# EAGLE library part ADXL375 (library KwanSystems)
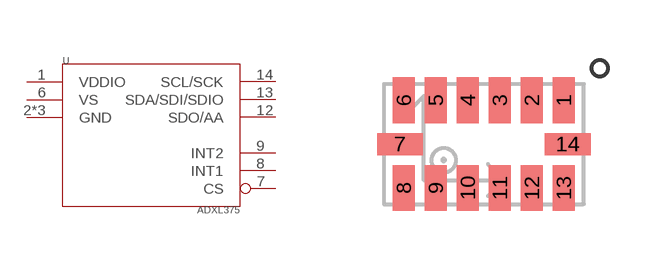
[diagram p32: symbol with the pads of ADXL375; footprint ADXL375]

Designator prefix -

## ADXL375  [ADXL375]
1  VDDIO  pwr
2  GND  pwr
4  GND  pwr
5  GND  pwr
6  VS  pwr
7  CS  in
8  INT1  out
9  INT2  out
12  SDO/AA
13  SDA/SDI/SDIO
14  SCL/SCK  in

## Footprint ADXL375 (pad centres in mm)
smd 0.55 x 1.145: 1 2,1.097; 2 1.2,1.097; 3 0.4,1.097; 4 -0.4,1.097; 5 -1.2,1.097; 6 -2,1.097; 8 -2,-1.097; 9 -1.2,-1.097; 10 -0.4,-1.097; 11 0.4,-1.097; 12 1.2,-1.097; 13 2,-1.097
smd 1.145 x 0.55: 7 -2.098,0; 14 2.098,0